# Altium integrated library C320C104M5U5TA.IntLib: 1 symbol
Pins are listed as number, name and electrical type; pins without a type are passive.

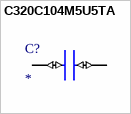
[diagram p0: symbol C320C104M5U5TA]

## C320C104M5U5TA
designator C?
C320 C 100nF Ceramic Multilayer Capacitor, 50 VDC, +85degC, Z5U Dielec, +/-20% | KEMET C320C104M5U5TA; SnapEDA_Link: https://www.snapeda.com/parts/C320C104M5U5TA/KEMET/view-part/?ref=snap; Package: Radial KEMET; Value: *; MF: KEMET; MP: C320C104M5U5TA; Check_prices: https://www.snapeda.com/parts/C320C104M5U5TA/KEMET/view-part/?ref=eda
footprint C320C
pins: 1 (io), 2 (io)